# Altium footprint library PCB_Oscillator.PcbLib: 2 footprints
Each footprint in its own frame and in the unit in brackets; x right, y up, seen from the top. Pads: shape width x height; smd on the part's side, far side on the other; paste and mask are expansions set on the pad; w line width, h text height; cw(c..) or ccw(c..) is an arc to the next point about the centre after c.
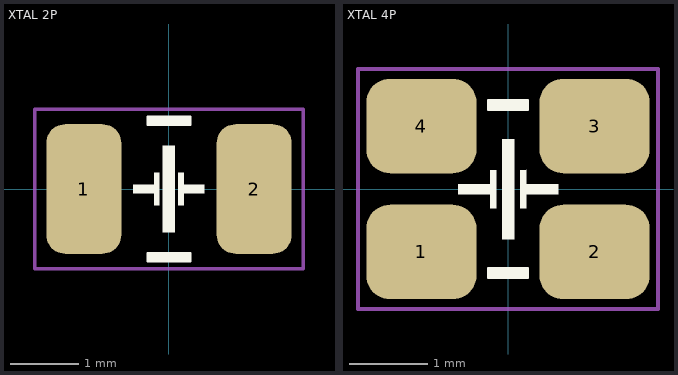
[diagram p0: the footprints below, top view; thin cyan lines are the x and y axes]

## XTAL 2P [mm]
pads (2):
  rrect50% 1.1x1.9 smd: 1(-1.25,0) 2(1.25,0)
Top Overlay:
  region: 0.519,0.064 0.214,0.064 0.214,0.241 0.138,0.241 0.138,-0.241 0.214,-0.241 0.214,-0.064 0.519,-0.064
  region: -0.09,0.635 0.087,0.635 0.087,-0.635 -0.09,-0.635
  region: -0.522,0.064 -0.217,0.064 -0.217,0.241 -0.141,0.241 -0.141,-0.241 -0.217,-0.241 -0.217,-0.064 -0.522,-0.064
  region: -0.319,-0.94 0.316,-0.94 0.316,-1.067 -0.319,-1.067
  region: -0.319,0.94 0.316,0.94 0.316,1.067 -0.319,1.067
  lines w0.025: -0.319,-1.067 -0.319,-0.94 0.316,-0.94 0.316,-1.067 -0.319,-1.067 ; -0.319,0.94 0.316,0.94 0.316,1.067 -0.319,1.067 -0.319,0.94
Mechanical 14:
  lines w0.051: -1.97,-1.168 -1.97,1.168 1.967,1.168 1.967,-1.168 -1.97,-1.168
  text ".Designator" at -0.127,-0.127 h1.52
3D body "ABS07.STEP": height 0.99, standoff 0.1, extent -1.6,-0.749 1.6,0.749

## XTAL 4P [mm]
pads (4):
  rrect50% 1.4x1.2 smd: 1(-1.1,-0.8) 2(1.1,-0.8) 3(1.1,0.8) 4(-1.1,0.8)
Top Overlay:
  region: 0.152,0.241 0.229,0.241 0.229,0.064 0.635,0.064 0.635,-0.064 0.229,-0.064 0.229,-0.241 0.152,-0.241
  region: -0.076,0.635 0.076,0.635 0.076,-0.635 -0.076,-0.635
  region: -0.635,0.064 -0.229,0.064 -0.229,0.241 -0.152,0.241 -0.152,-0.241 -0.229,-0.241 -0.229,-0.064 -0.635,-0.064
  region: -0.254,1.13 0.254,1.13 0.254,1.003 -0.254,1.003
  region: -0.254,-1.003 0.254,-1.003 0.254,-1.13 -0.254,-1.13
  lines w0.025: -0.254,-1.13 -0.254,-1.003 0.254,-1.003 0.254,-1.13 -0.254,-1.13 ; -0.254,1.003 0.254,1.003 0.254,1.13 -0.254,1.13 -0.254,1.003
Mechanical 14:
  lines w0.051: -1.905,-1.524 -1.905,1.524 1.905,1.524 1.905,-1.524 -1.905,-1.524
  text ".Designator" at 0,0 h1.52
3D body "FA-238.stp": height 0.71, standoff 0.01, extent -1.6,-1.25 1.6,1.25